# EAGLE library part 74HC595 (library ICs)
8bit, low cost shift register.
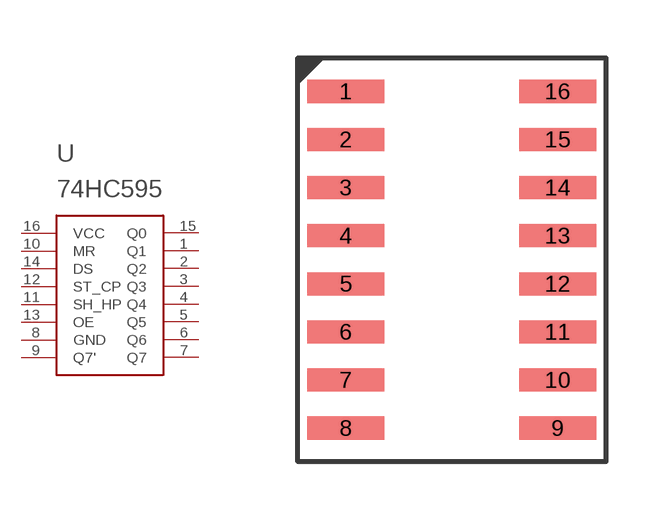
[diagram p12: symbol with the pads of SO16; footprint SO16]

Designator prefix U

## 74HC595 (FARNELL: 2342527)  [SO16]
1  Q1
2  Q2
3  Q3
4  Q4
5  Q5
6  Q6
7  Q7
8  GND
9  Q7'
10  MR
11  SH_HP
12  ST_CP
13  OE
14  DS
15  Q0
16  VCC

## Footprint SO16 (pad centres in mm)
smd 2 x 0.6: 1 -2.75,4.375; 2 -2.75,3.125; 3 -2.75,1.875; 4 -2.75,0.625; 5 -2.75,-0.625; 6 -2.75,-1.875; 7 -2.75,-3.125; 8 -2.75,-4.375; 9 2.75,-4.375; 10 2.75,-3.125; 11 2.75,-1.875; 12 2.75,-0.625; 13 2.75,0.625; 14 2.75,1.875; 15 2.75,3.125; 16 2.75,4.375